# EAGLE library part INA826AID (library INA826AID)
Texas Instruments INA826AID Instrumentation Amplifier, 150uV Offset 1MHz GBW, CMMR 80dB, 2.7 36 V, 8-Pin SOIC Source: Datasheet <http://www.ti.com/lit/gpn/ina826>
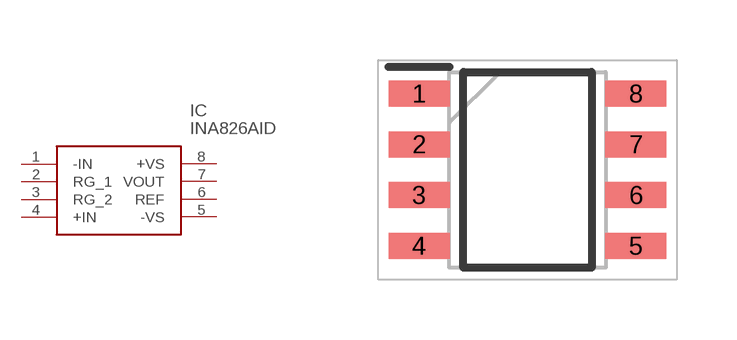
[diagram p0: symbol with the pads of SOIC127P600X175-8N; footprint SOIC127P600X175-8N]

Designator prefix IC

## INA826AID (Description: Texas Instruments INA826AID Instrumentation Amplifier, 150uV Offset 1MHz GBW, CMMR 80dB, 2.7 36 V, 8-Pin SOIC; Height: 1.75mm; Manufacturer_Name: Texas Instruments; Manufacturer_Part_Number: INA826AID; Mouser_Part_Number: 595-INA826AID; Mouser_Price-Stock: https://www.mouser.co.uk/ProductDetail/Texas-Instruments/INA826AID?qs=RqytGdBYyUH0CDtkCzl1iw%3D%3D)  [SOIC127P600X175-8N]
1  -IN
2  RG_1
3  RG_2
4  +IN
5  -VS
6  REF
7  VOUT
8  +VS

## Footprint SOIC127P600X175-8N (pad centres in mm)
D (R-PDSO-G8)
smd 1.525 x 0.65: 1 -2.712,1.905; 2 -2.712,0.635; 3 -2.712,-0.635; 4 -2.712,-1.905; 5 2.712,-1.905; 6 2.712,-0.635; 7 2.712,0.635; 8 2.712,1.905